# Altium footprint library TPS6103X.PcbLib: 1 footprints
Each footprint in its own frame and in the unit in brackets; x right, y up, seen from the top. Pads: shape width x height; smd on the part's side, far side on the other; paste and mask are expansions set on the pad; w line width, h text height; cw(c..) or ccw(c..) is an arc to the next point about the centre after c.
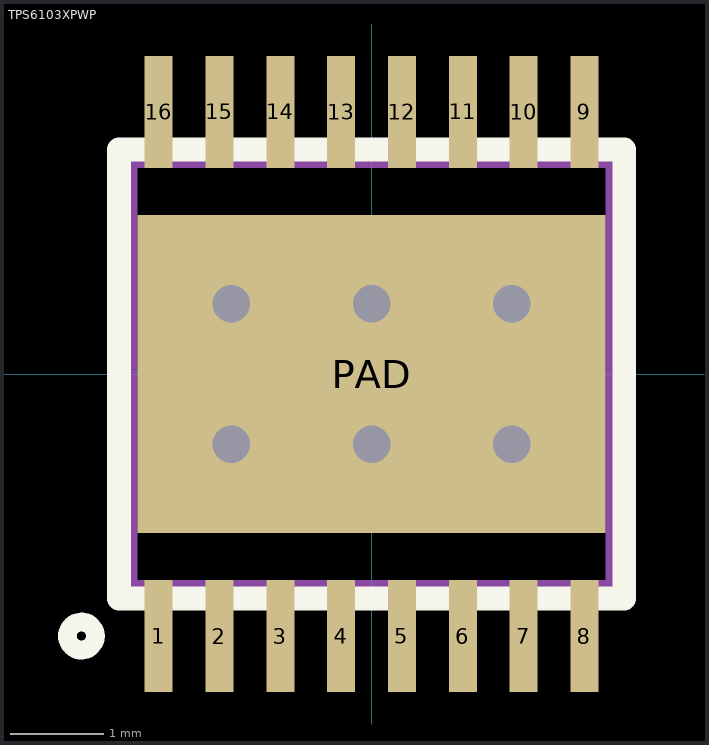
[diagram p0: the footprint, top view; thin cyan lines are the x and y axes]

## TPS6103XPWP [mm]
height 0.03
pads (17):
  rect 0.3x1.2 smd: 1(-2.275,-2.8) 2(-1.625,-2.8) 3(-0.975,-2.8) 4(-0.325,-2.8) 5(0.325,-2.8) 6(0.975,-2.8) 7(1.625,-2.8) 8(2.275,-2.8) 9(2.275,2.8) 10(1.625,2.8) 11(0.975,2.8) 12(0.325,2.8) 13(-0.325,2.8) 14(-0.975,2.8) 15(-1.625,2.8) 16(-2.275,2.8)
  rect 5x3.4 smd paste-100: PAD(0,0)
via 1.5,0.75 diameter 0.8 hole 0.4
via 1.5,-0.75 diameter 0.8 hole 0.4
via -1.5,-0.75 diameter 0.8 hole 0.4
via -1.5,0.75 diameter 0.8 hole 0.4
via 0,0.75 diameter 0.8 hole 0.4
via 0,-0.75 diameter 0.8 hole 0.4
Top Overlay:
  circle w0.2: c-3.1,-2.8 r0.15
  lines w0.254: -2.7,-2.4 2.7,-2.4 2.7,2.4 -2.7,2.4 -2.7,-2.4
Top Paste:
  rectangle: -1.05,-1.15 1.05,1.15
Top Solder:
  rectangle: -1.15,-1.25 1.15,1.25
Mechanical 1:
  lines w0.1: -2.55,-2.25 2.55,-2.25 2.55,2.25 -2.55,2.25 -2.55,-2.25
3D body: height 1.45, standoff 0, extent -2.55,-2.25 2.55,2.25